# EAGLE library part ADC-LTC1864 (library foe-scale)
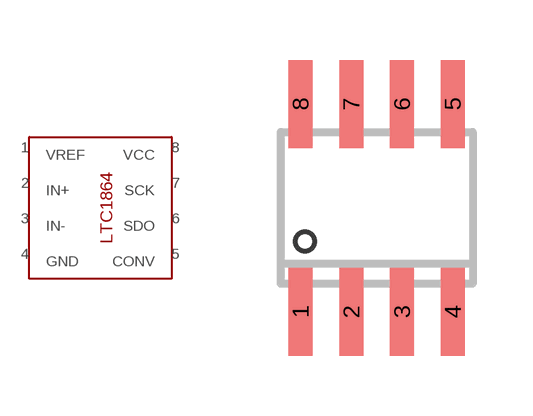
[diagram p12: symbol with the pads of SOIC8; footprint SOIC8]

Designator prefix -

## ADC-LTC1864  [SOIC8]
1  VREF
2  IN+
3  IN-
4  GND
5  CONV
6  SDO
7  SCK
8  VCC

## Footprint SOIC8 (pad centres in mm)
Small Outline IC
smd 0.6 x 2.2: 1 -1.905,-2.6; 2 -0.635,-2.6; 3 0.635,-2.6; 4 1.905,-2.6; 5 1.905,2.6; 6 0.635,2.6; 7 -0.635,2.6; 8 -1.905,2.6